# Altium footprint library Control_Board.PcbLib: 23 footprints (part 1 of 2)
Each footprint in its own frame and in the unit in brackets; x right, y up, seen from the top. Pads: shape width x height; smd on the part's side, far side on the other; paste and mask are expansions set on the pad; w line width, h text height; cw(c..) or ccw(c..) is an arc to the next point about the centre after c.
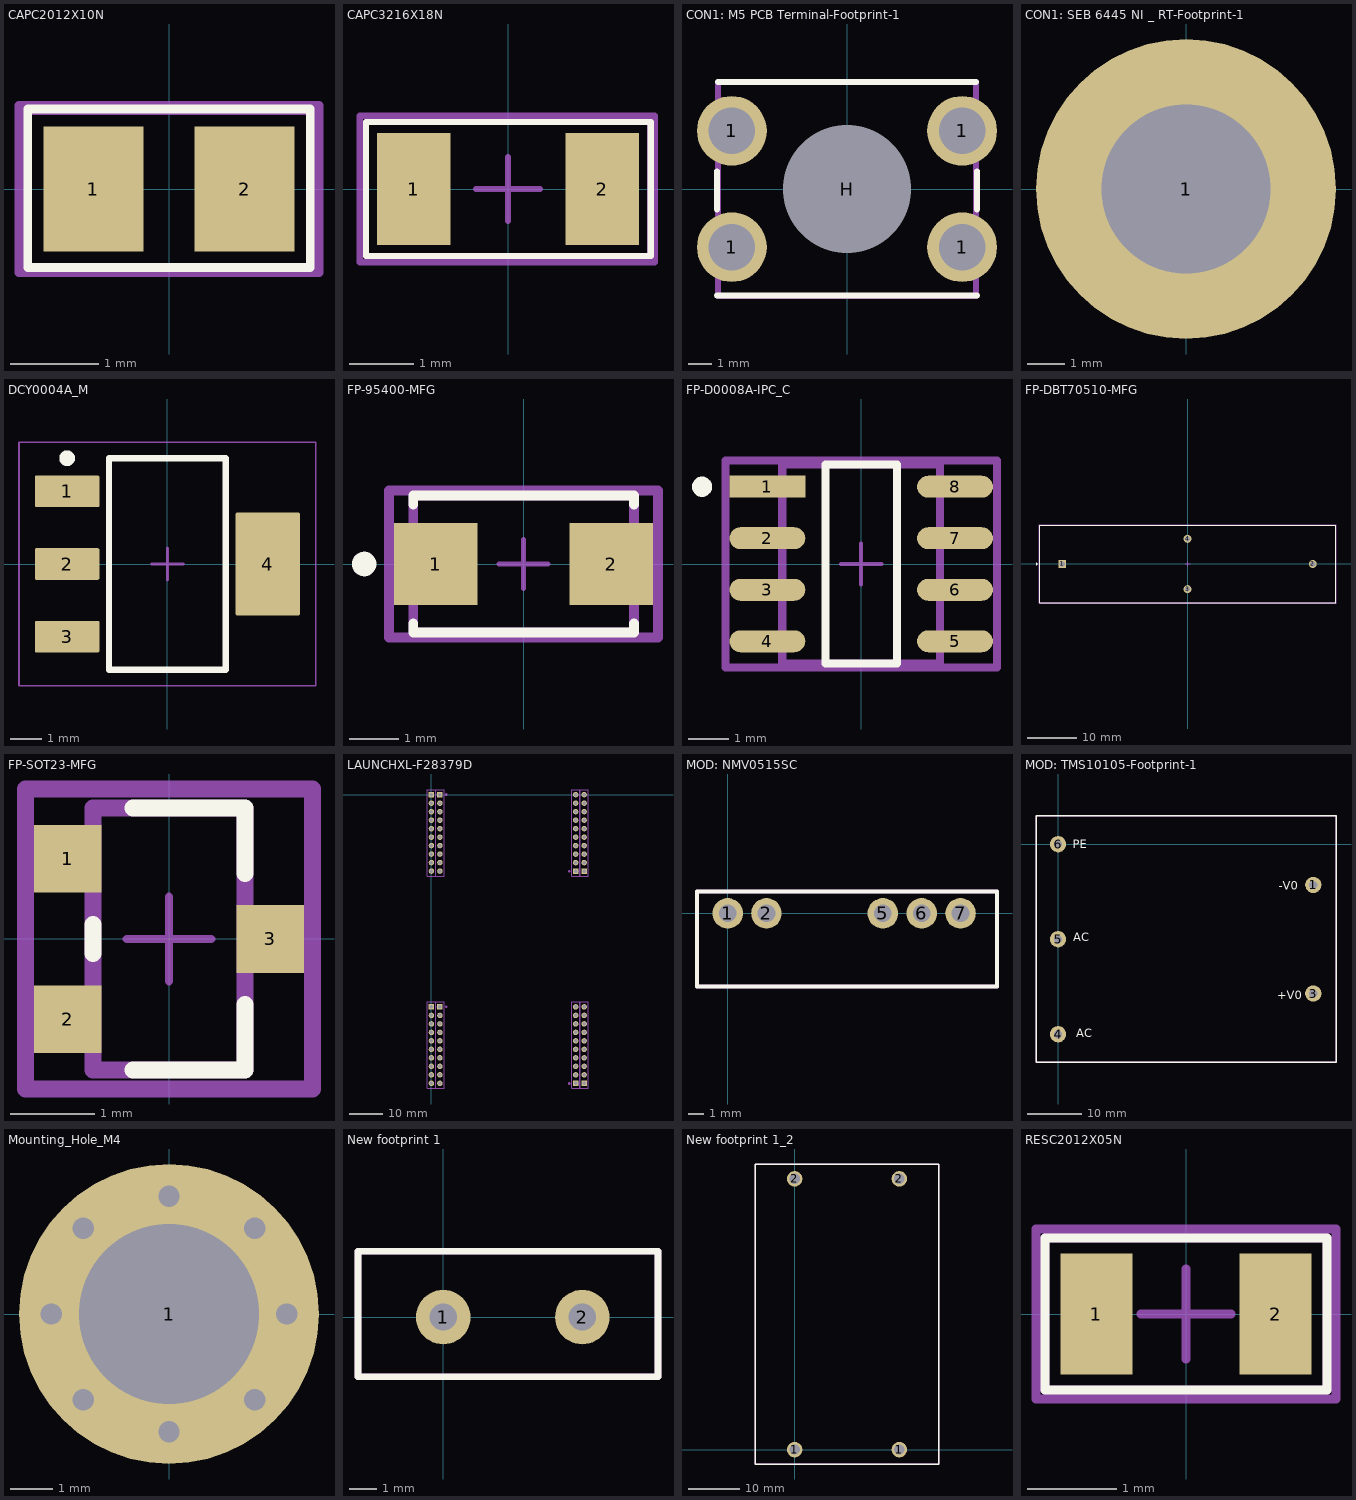
[diagram p0: the footprints below, top view; thin cyan lines are the x and y axes]

## CAPC2012X10N [mm]
pads (2):
  rect 1.135x1.42 smd: 1(-0.857,0) 2(0.857,0)
Top Overlay:
  lines w0.1: -1.6,-0.889 -1.6,0.905 1.6,0.905 1.6,-0.889 -1.6,-0.889
Top Assembly:
  lines w0.1: -1.6,-0.889 -1.6,0.889 1.6,0.889 1.6,-0.889 -1.6,-0.889
  text ".Designator" at 1.038,0.048 h1
Top Courtyard:
  lines w0.1: -1.7,-0.95 -1.7,0.95 1.7,0.95 1.7,-0.95 -1.7,-0.95
3D body "CAPC2012X10N.step": height 0.95, standoff 0, extent -1.05,-0.65 1.05,0.65

## CAPC3216X18N [mm]
pads (2):
  rect 1.15x1.75 smd: 1(-1.475,0) 2(1.475,0)
Top Overlay:
  lines w0.1: -2.225,-1.05 2.239,-1.05 2.239,1.05 -2.225,1.05 -2.225,-1.05
Top Assembly:
  lines w0.1: -2.225,-1.05 2.225,-1.05 2.225,1.05 -2.225,1.05 -2.225,-1.05
  text ".Designator" at 0.62,0.332 h1
Top Courtyard:
  lines w0.1: -0.5,0 0.5,0 ; 0,-0.5 0,0.5 ; -2.325,-1.15 2.3,-1.15 2.3,1.15 -2.325,1.15 -2.325,-1.15
3D body "CAPC3216X18N.step": height 1.8, standoff 0, extent -1.65,-0.85 1.65,0.85

## CON1: M5 PCB Terminal-Footprint-1 [mm]
pads (5):
  round 3 hole 2: 1(-4.95,-2.5) 1(-4.95,2.5) 1(4.95,-2.5) 1(4.95,2.5)
  round 5 hole 5.5 unplated: H(0,0)
Top Overlay:
  lines w0.254: -5.588,-4.572 5.588,-4.572 ; -5.588,-0.889 -5.588,0.762 ; -5.55,4.6 5.55,4.6 ; 5.588,-0.889 5.588,0.762
Top 3D Body:
  lines w0.254: -5.55,-4.6 -5.55,4.6 5.55,4.6 5.55,-4.6 -5.55,-4.6
3D body: height 8.5, standoff 0, extent -5.55,-4.6 5.55,4.6

## CON1: SEB 6445 NI _ RT-Footprint-1 [mm]
pads (1):
  round 8 hole 4.5: 1(0,0)
Top Assembly:
  text ".Designator" at 4.572,-1.524 h1.52

## DCY0004A_M [mm]
pads (4):
  rrect10% 2.05x1 smd: 1(-3.175,2.3) 2(-3.175,0) 3(-3.175,-2.3)
  rrect5% 2.05x3.25 smd: 4(3.175,0)
Top Overlay:
  circle w0.25: c-3.175,3.35 r0.125
  lines w0.2: -1.85,-3.35 1.85,-3.35 1.85,3.35 -1.85,3.35 -1.85,-3.35
Top Assembly:
  lines w0.1: -1.85,-3.35 1.85,-3.35 1.85,3.35 -1.85,3.35 -1.85,-3.35
  text ".Designator" at -1.651,-0.381 h0.8
Top Courtyard:
  lines w0.05: -4.7,-3.85 4.7,-3.85 4.7,3.85 -4.7,3.85 -4.7,-3.85
  lines w0.1: -0.5,0 0.5,0 ; 0,-0.5 0,0.5
3D body "SOT-223.stp": height 1.62, standoff -0.03, extent -3.5,-3.25 3.5,3.25

## FP-95400-MFG [mm]
pads (2):
  rect 1.7x1.68 smd paste+0 mask+0: 1(-1.79,0) 2(1.79,0)
Top Overlay:
  circle w0.25: c-3.25,0 r0.125
  lines w0.2: -2.25,-1.215 -2.25,-1.395 2.25,-1.395 2.25,-1.215 ; -2.25,1.215 -2.25,1.395 2.25,1.395 2.25,1.215
Top 3D Body:
  lines w0.2: -2.25,-1.395 2.25,-1.395 2.25,1.395 -2.25,1.395 -2.25,-1.395
Top Assembly:
  lines w0.2: -2.74,-1.495 2.74,-1.495 2.74,1.495 -2.74,1.495 -2.74,-1.495
  text ".Designator" at 0,0.189 h1
Top Component Center:
  lines w0.1: -0.5,0 0.5,0 ; 0,-0.5 0,0.5
Top Courtyard:
  lines w0.2: -2.74,-1.495 2.74,-1.495 2.74,1.495 -2.74,1.495 -2.74,-1.495
3D body "Diode_Vishay_US1M-E3-61T_eec.STEP": height 0.25, standoff 0, extent -2.74,-1.495 2.74,1.495

## FP-D0008A-IPC_C [mm]
pads (8):
  rect 1.869x0.542 smd paste+0 mask+0: 1(-2.314,1.905)
  rrect100% 1.869x0.542 smd paste+0 mask+0: 2(-2.314,0.635) 3(-2.314,-0.635) 4(-2.314,-1.905) 5(2.314,-1.905) 6(2.314,-0.635) 7(2.314,0.635) 8(2.314,1.905)
Top Overlay:
  circle w0.25: c-3.923,1.905 r0.125
  lines w0.2: -0.879,-2.452 -0.879,2.452 0.879,2.452 0.879,-2.452 -0.879,-2.452
Top 3D Body:
  lines w0.2: -1.947,-2.452 -1.947,2.452 1.947,2.452 1.947,-2.452 -1.947,-2.452
Top Assembly:
  lines w0.2: -3.348,-2.552 -3.348,2.552 3.348,2.552 3.348,-2.552 -3.348,-2.552
  text ".Designator" at 0,0.189 h1
Top Component Center:
  lines w0.1: -0.5,0 0.5,0 ; 0,-0.5 0,0.5
Top Courtyard:
  lines w0.2: -3.348,-2.552 -3.348,2.552 3.348,2.552 3.348,-2.552 -3.348,-2.552
3D body "IC_Texas_Instruments_LM358ADR_eec.STEP": height 0.25, standoff 0, extent -3.348,-2.552 3.348,2.552

## FP-DBT70510-MFG [mm]
pads (4):
  rect 1.6x1.6 hole 1.05 paste-2539.97 mask+0: 1(-25.4,0)
  round 1.6 hole 1.05 paste-2539.97 mask+0: 2(25.4,0) 3(0,-5.1) 4(0,5.1)
Top Overlay:
  circle w0.25: c-30.6,0 r0.125
  lines w0.2: -30,-7.9 -30,7.9 30,7.9 30,-7.9 -30,-7.9
Top 3D Body:
  lines w0.2: -30,-7.9 -30,7.9 30,7.9 30,-7.9 -30,-7.9
Top Assembly:
  lines w0.2: -30.1,-8 -30.1,8 30.1,8 30.1,-8 -30.1,-8
  text ".Designator" at 0,0.189 h1
Top Component Center:
  lines w0.1: -0.5,0 0.5,0 ; 0,-0.5 0,0.5
Top Courtyard:
  lines w0.2: -30.1,-8 -30.1,8 30.1,8 30.1,-8 -30.1,-8
3D body "Relay_Cynergy3_DBT70510_eec.STEP": height 0.25, standoff 0, extent -30.1,-8 30.1,8

## FP-SOT23-MFG [mm]
pads (3):
  rect 0.8x0.8 smd paste+0 mask+0: 1(-1.2,0.95) 2(-1.2,-0.95) 3(1.2,0)
Top Overlay:
  lines w0.2: -0.9,-0.175 -0.9,0.175 ; -0.425,-1.55 0.9,-1.55 0.9,-0.775 ; -0.425,1.55 0.9,1.55 0.9,0.775
Top 3D Body:
  lines w0.2: -0.9,-1.55 -0.9,1.55 0.9,1.55 0.9,-1.55 -0.9,-1.55
Top Assembly:
  lines w0.2: -1.7,-1.777 -1.7,1.777 1.7,1.777 1.7,-1.777 -1.7,-1.777
  text ".Designator" at 0,0 h1
Top Component Center:
  lines w0.1: -0.5,0 0.5,0 ; 0,-0.5 0,0.5
Top Courtyard:
  lines w0.2: -1.7,-1.777 -1.7,1.777 1.7,1.777 1.7,-1.777 -1.7,-1.777
3D body "Trans_Alpha_&_Omega_Semiconductor_AO3400A_eec.STEP": height 0.25, standoff 0, extent -1.7,-1.777 1.7,1.777

## LAUNCHXL-F28379D [mm]
pads (80):
  rect 1.62x1.62 hole 1.02 mask+0.1: 1(0,0) 11(45.72,-22.86) 21(2.54,0) 31(43.18,-22.86) 41(0,-63.5) 51(45.72,-86.36) 61(2.54,-63.5) 71(43.18,-86.36)
  round 1.62 hole 1.02 mask+0.1: 2(0,-2.54) 3(0,-5.08) 4(0,-7.62) 5(0,-10.16) 6(0,-12.7) 7(0,-15.24) 8(0,-17.78) 9(0,-20.32) 10(0,-22.86) 12(45.72,-20.32) 13(45.72,-17.78) 14(45.72,-15.24) 15(45.72,-12.7) 16(45.72,-10.16) 17(45.72,-7.62) 18(45.72,-5.08) 19(45.72,-2.54) 20(45.72,0) 22(2.54,-2.54) 23(2.54,-5.08) 24(2.54,-7.62) 25(2.54,-10.16) 26(2.54,-12.7) 27(2.54,-15.24) 28(2.54,-17.78) 29(2.54,-20.32) 30(2.54,-22.86) 32(43.18,-20.32) 33(43.18,-17.78) 34(43.18,-15.24) 35(43.18,-12.7) 36(43.18,-10.16) 37(43.18,-7.62) 38(43.18,-5.08) 39(43.18,-2.54) 40(43.18,0) 42(0,-66.04) 43(0,-68.58) 44(0,-71.12) 45(0,-73.66) 46(0,-76.2) 47(0,-78.74) 48(0,-81.28) 49(0,-83.82) 50(0,-86.36) 52(45.72,-83.82) 53(45.72,-81.28) 54(45.72,-78.74) 55(45.72,-76.2) 56(45.72,-73.66) 57(45.72,-71.12) 58(45.72,-68.58) 59(45.72,-66.04) 60(45.72,-63.5) 62(2.54,-66.04) 63(2.54,-68.58) 64(2.54,-71.12) 65(2.54,-73.66) 66(2.54,-76.2) 67(2.54,-78.74) 68(2.54,-81.28) 69(2.54,-83.82) 70(2.54,-86.36) 72(43.18,-83.82) 73(43.18,-81.28) 74(43.18,-78.74) 75(43.18,-76.2) 76(43.18,-73.66) 77(43.18,-71.12) 78(43.18,-68.58) 79(43.18,-66.04) 80(43.18,-63.5)
Bottom Overlay:
  circle w0.4: c41.021,-24.384 r0.18
  circle w0.4: c-2.159,1.524 r0.18
  circle w0.4: c48.006,-24.384 r0.18
  circle w0.4: c4.572,1.524 r0.18
  circle w0.4: c-2.159,-61.976 r0.18
  circle w0.4: c4.572,-61.976 r0.18
  circle w0.4: c40.894,-87.884 r0.18
  lines w0.15: -1.25,-87.88 1.25,-87.88 1.25,-61.98 -1.25,-61.98 -1.25,-87.88 ; -1.25,-24.38 1.25,-24.38 1.25,1.52 -1.25,1.52 -1.25,-24.38 ; 1.29,-87.88 3.79,-87.88 3.79,-61.98 1.29,-61.98 1.29,-87.88 ; 1.29,-24.38 3.79,-24.38 3.79,1.52 1.29,1.52 1.29,-24.38 ; 41.93,-87.88 44.43,-87.88 44.43,-61.98 41.93,-61.98 41.93,-87.88 ; 41.93,-24.38 44.43,-24.38 44.43,1.52 41.93,1.52 41.93,-24.38 ; 44.47,-87.88 46.97,-87.88 46.97,-61.98 44.47,-61.98 44.47,-87.88 ; 44.47,-24.38 46.97,-24.38 46.97,1.52 44.47,1.52 44.47,-24.38
  lines w0.4: 48.006,-88.064 cw(c48.006,-87.884) 48.045,-88.06
Top Assembly:
  text ".Designator" at 14.859,-43.561 h1.52
Mechanical 14:
  circle w0.4: c41.28,-22.91 r0.18
  circle w0.4: c1.9,0.05 r0.18
  circle w0.4: c43.82,-22.91 r0.18
  circle w0.4: c4.44,0.05 r0.18
  circle w0.4: c1.9,-63.45 r0.18
  circle w0.4: c43.82,-86.41 r0.18
  circle w0.4: c4.44,-63.45 r0.18
  circle w0.4: c41.28,-86.41 r0.18
  lines w0.1: -1.25,-87.88 -1.25,-61.98 1.25,-61.98 1.25,-87.88 -1.25,-87.88 ; -1.25,-24.38 -1.25,1.52 1.25,1.52 1.25,-24.38 -1.25,-24.38 ; 1.29,-87.88 1.29,-61.98 3.79,-61.98 3.79,-87.88 1.29,-87.88 ; 1.29,-24.38 1.29,1.52 3.79,1.52 3.79,-24.38 1.29,-24.38 ; 41.93,-87.88 41.93,-61.98 44.43,-61.98 44.43,-87.88 41.93,-87.88 ; 41.93,-24.38 41.93,1.52 44.43,1.52 44.43,-24.38 41.93,-24.38 ; 44.47,-87.88 44.47,-61.98 46.97,-61.98 46.97,-87.88 44.47,-87.88 ; 44.47,-24.38 44.47,1.52 46.97,1.52 46.97,-24.38 44.47,-24.38
Mechanical 16:
  lines w0.05: 1.25,-87.88 1.25,-61.98 -1.2,-61.98 -1.2,-87.88 1.3,-87.88 ; 1.25,-24.38 1.25,1.52 -1.2,1.52 -1.2,-24.38 1.3,-24.38 ; 3.79,-87.88 3.79,-61.98 1.34,-61.98 1.34,-87.88 3.84,-87.88 ; 3.79,-24.38 3.79,1.52 1.34,1.52 1.34,-24.38 3.84,-24.38 ; 41.88,-61.98 44.38,-61.98 44.38,-87.88 41.93,-87.88 41.93,-61.98 ; 41.88,1.52 44.38,1.52 44.38,-24.38 41.93,-24.38 41.93,1.52 ; 44.42,-61.98 46.92,-61.98 46.92,-87.88 44.47,-87.88 44.47,-61.98 ; 44.42,1.52 46.92,1.52 46.92,-24.38 44.47,-24.38 44.47,1.52
3D body "TD-110-G-AA.stp": height 8.29, standoff -3.82, extent 42.037,-87.605 47.117,-62.357
3D body "TD-110-G-AA.stp": height 8.29, standoff -3.82, extent 42.037,-24.105 47.117,1.143
3D body "TD-110-G-AA.stp": height 8.29, standoff -3.82, extent -1.143,-87.605 3.937,-62.357
3D body "TD-110-G-AA.stp": height 8.29, standoff -3.82, extent -1.143,-24.105 3.937,1.143
3D body "LAUNCHXL-F28379D-REV2.0.step": height 16.62, standoff 2.65, extent -6.096,-98.192 52.324,32.66

## MOD: NMV0515SC [mm]
pads (5):
  round 2 hole 1.15: 1(0,0) 2(2.54,0) 5(10.16,0) 6(12.7,0) 7(15.24,0)
Top Overlay:
  lines w0.254: -2.007,-4.775 17.628,-4.775 17.628,1.422 -2.007,1.422 -2.007,-4.775
Top Assembly:
  lines w0.254: -2.007,-4.775 17.628,-4.775 17.628,1.422 -2.007,1.422 -2.007,-4.775
  text ".Designator" at 0.813,-2.921 h1.52
3D body "mps_dcdc_nmv_sc_a.step": height 10.01, standoff -4.09, extent -1.91,-4.829 17.59,1.191

## MOD: TMS10105-Footprint-1 [mm]
pads (5):
  round 3 hole 1.5: 1(47,-7.5) 3(47,-27.5) 4(0,-35) 5(0,-17.5) 6(0,0)
Top Overlay:
  lines w0.254: -4.064,-40.132 -4.064,5.207 51.181,5.207 51.181,-40.132 -4.064,-40.132
  text "+V0" at 40.386,-28.575 h1.52
  text "-V0" at 40.64,-8.382 h1.52
  text "AC" at 3.302,-35.56 h1.52
  text "AC" at 2.794,-17.907 h1.52
  text "PE" at 2.667,-0.762 h1.52
Top Assembly:
  lines w0.254: -4.064,-40.132 -4.064,5.207 51.181,5.207 51.181,-40.132 -4.064,-40.132
  text ".Designator" at 2.413,-39.116 h1.52
3D body "TMS_10105.stp": height 24.01, standoff -9.09, extent -3.946,-40.026 51.054,4.974

## Mounting_Hole_M4 [mm]
pads (1):
  round 7 hole 4.2: 1(0,0)
via -2,2 diameter 0.7 hole 0.5
via -2.75,0 diameter 0.7 hole 0.5
via -2,-2 diameter 0.7 hole 0.5
via 0,-2.75 diameter 0.7 hole 0.5
via 2,-2 diameter 0.7 hole 0.5
via 2,2 diameter 0.7 hole 0.5
via 0,2.75 diameter 0.7 hole 0.5
via 2.75,0 diameter 0.7 hole 0.5

## New footprint 1 [mm]
pads (2):
  round 2 hole 1: 1(0,0) 2(5.1,0)
Top Overlay:
  lines w0.254: -3.126,-2.187 7.874,-2.187 7.874,2.413 -3.126,2.413 -3.126,-2.187
Top Assembly:
  lines w0.254: -3.126,-2.187 7.874,-2.187 7.874,2.413 -3.126,2.413 -3.126,-2.187
  text ".Designator" at -2.032,-1.27 h1.52
3D body "User Library-capdisc_D11_F5_H11p5.step": height 11.5, standoff -3, extent -3.087,-1.016 7.913,1.484

## New footprint 1_2 [mm]
pads (4):
  round 3 hole 2: 1(0,0) 1(20.3,0) 2(0,52.5) 2(20.3,52.5)
Top Overlay:
  lines w0.254: -7.62,-2.794 -7.62,55.372 27.94,55.372 27.94,-2.794 -7.62,-2.794
Top Assembly:
  lines w0.254: -7.62,-2.794 -7.62,55.372 27.94,55.372 27.94,-2.794 -7.62,-2.794
  text ".Designator" at -1.143,5.588 h1.52
3D body "C4AQLBW6130A3NK.step": height 50.31, standoff -5.99, extent -7.62,-2.794 27.885,55.506

## RESC2012X05N [mm]
pads (2):
  rect 0.8x1.35 smd: 1(-1,0) 2(1,0)
Top Overlay:
  lines w0.1: -1.575,-0.85 1.575,-0.85 1.575,0.85 -1.575,0.85 -1.575,-0.85
Top Assembly:
  lines w0.1: -1.575,-0.85 1.575,-0.85 1.575,0.85 -1.575,0.85 -1.575,-0.85
  text ".Designator" at -1.575,-0.85 h1.52
Top Courtyard:
  lines w0.1: -0.5,0 0.5,0 ; 0,-0.5 0,0.5 ; -1.675,-0.95 1.675,-0.95 1.675,0.95 -1.675,0.95 -1.675,-0.95
3D body "RESC2012X05N.step": height 0.5, standoff 0, extent -1.05,-0.675 1.05,0.675